# EAGLE library part PE42723 (library low-gain-radio)
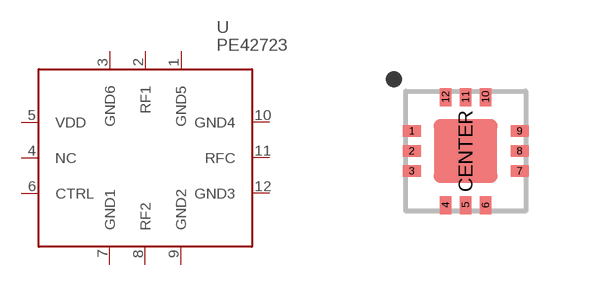
[diagram p8: symbol with the pads of PE42723; footprint PE42723]

Designator prefix -

## PE42723  [PE42723]
1  GND5  pwr
2  RF1
3  GND6  pwr
4  NC  nc
5  VDD  pwr
6  CTRL  in
7  GND1  pwr
8  RF2
9  GND2  pwr
10  GND4  pwr
11  RFC
12  GND3  pwr

## Footprint PE42723 (pad centres in mm)
smd 0.45 x 0.28: 1 -1.35,0.5; 2 -1.35,0; 3 -1.35,-0.5; 7 1.35,-0.5; 8 1.35,0; 9 1.35,0.5
smd 0.28 x 0.45: 4 -0.5,-1.35; 5 0,-1.35; 6 0.5,-1.35; 10 0.5,1.35; 11 0,1.35; 12 -0.5,1.35
smd 1.6 x 1.6: CENTER 0,0